# Altium integrated library NSC OtherParts.IntLib: 64 symbols (part 3 of 3)
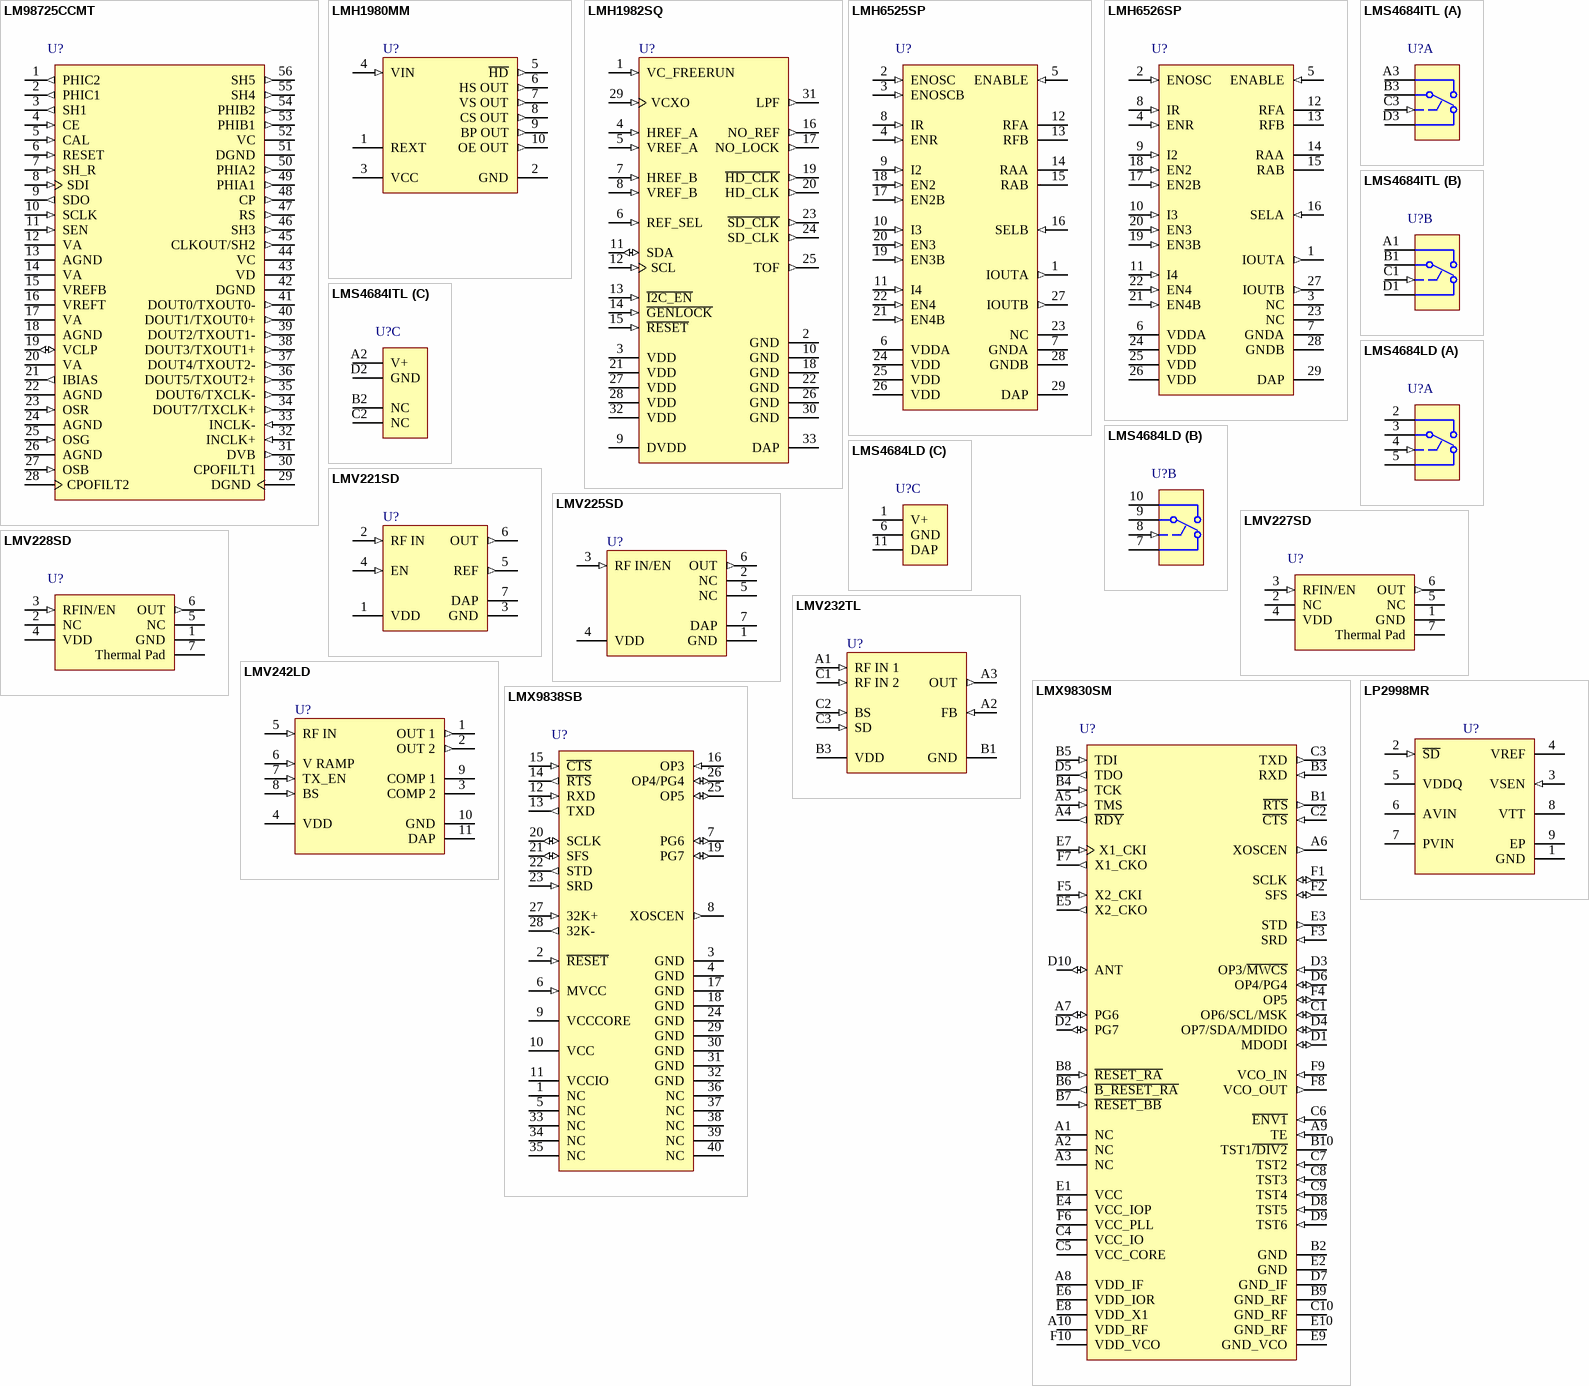
[diagram p6: symbols LM98725CCMT to LP2998MR]

## LP2998MR
designator U?
DDR-II and DDR-I Termination Regulator; PartNumber: LP2998MR; Manufacturer: National Semiconductor; CompType: OtherParts; PackageTopMarking: NSXYTT*LP2998*MR; Published: 4-Dec-2008; DatasheetVersion: Apr-2008; PackageVersion: revD, Dec-2007; PackageReference: MRA08A; Publisher: Altium Limited; PackageDescription: Molded, PSOP .193 x .154 x .058in, 8 Lead, .050in Pitch; RoHS: Y; PinCount: 8; DigiKeyPartNumber: LP2998MR-ND; Code_JEDEC: MS-012-AA; ComponentLink1Description: LP2998 Datasheet; ComponentLink1URL: http://www.national.com/ds/LP/LP2998.pdf; ComponentLink2Description: LP2998 Web Page; ComponentLink2URL: http://www.national.com/pf/LP/LP2998.html; ComponentLink3Description: MRA08A Package Page; ComponentLink3URL: http://www.national.com/packaging/folders/mra08a.html
footprint MRA08A_N (SOIC, 8-Leads, Body 4.9x3.9mm, Pitch 1.27mm, Exposed Pad, IPC Medium Density)
footprint MRA08A_L (SOIC, 8-Leads, Body 4.9x3.9mm, Pitch 1.27mm, Exposed Pad, IPC High Density)
footprint MRA08A_M (SOIC, 8-Leads, Body 4.9x3.9mm, Pitch 1.27mm, Exposed Pad, IPC Low Density)
pins: 1 GND (power), 2 ~{SD} (in), 3 VSEN (in), 4 VREF, 5 VDDQ (power), 6 AVIN (power), 7 PVIN (power), 8 VTT (power), 9 EP (power)